# Altium schematic symbol library 830003000.SchLib: 1 symbol
Pins are listed as number, name and electrical type; pins without a type are passive.

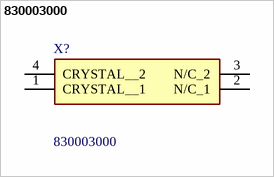
[diagram p0: symbol 830003000]

## 830003000
designator X?
32.768 kHz +/-20ppm Crystal 12.5pF 50 kOhms 4-SOJ, 5.5mm pitch; Manufacturer_Name: Wurth Elektronik; Geometry.Height: 2.5mm; Manufacturer_Part_Number: 830003000; Mouser Part Number: 710-830003000; Mouser Price/Stock: https://www.mouser.co.uk/ProductDetail/Wurth-Elektronik/830003000?qs=2WXlatMagcFgTyBqolG%2Fpw%3D%3D; Arrow Part Number: *; Arrow Price/Stock: *; Datasheet Link: https://www.we-online.com/components/products/datasheet/830003000.pdf
footprint 830003000
pins: 1 CRYSTAL__1, 2 N/C_1, 3 N/C_2, 4 CRYSTAL__2